# Altium footprint library PASSIVE_SMD.PCBLIB: 249 footprints (part 1 of 16)
Each footprint in its own frame and in the unit in brackets; x right, y up, seen from the top. Pads: shape width x height; smd on the part's side, far side on the other; paste and mask are expansions set on the pad; w line width, h text height; cw(c..) or ccw(c..) is an arc to the next point about the centre after c.
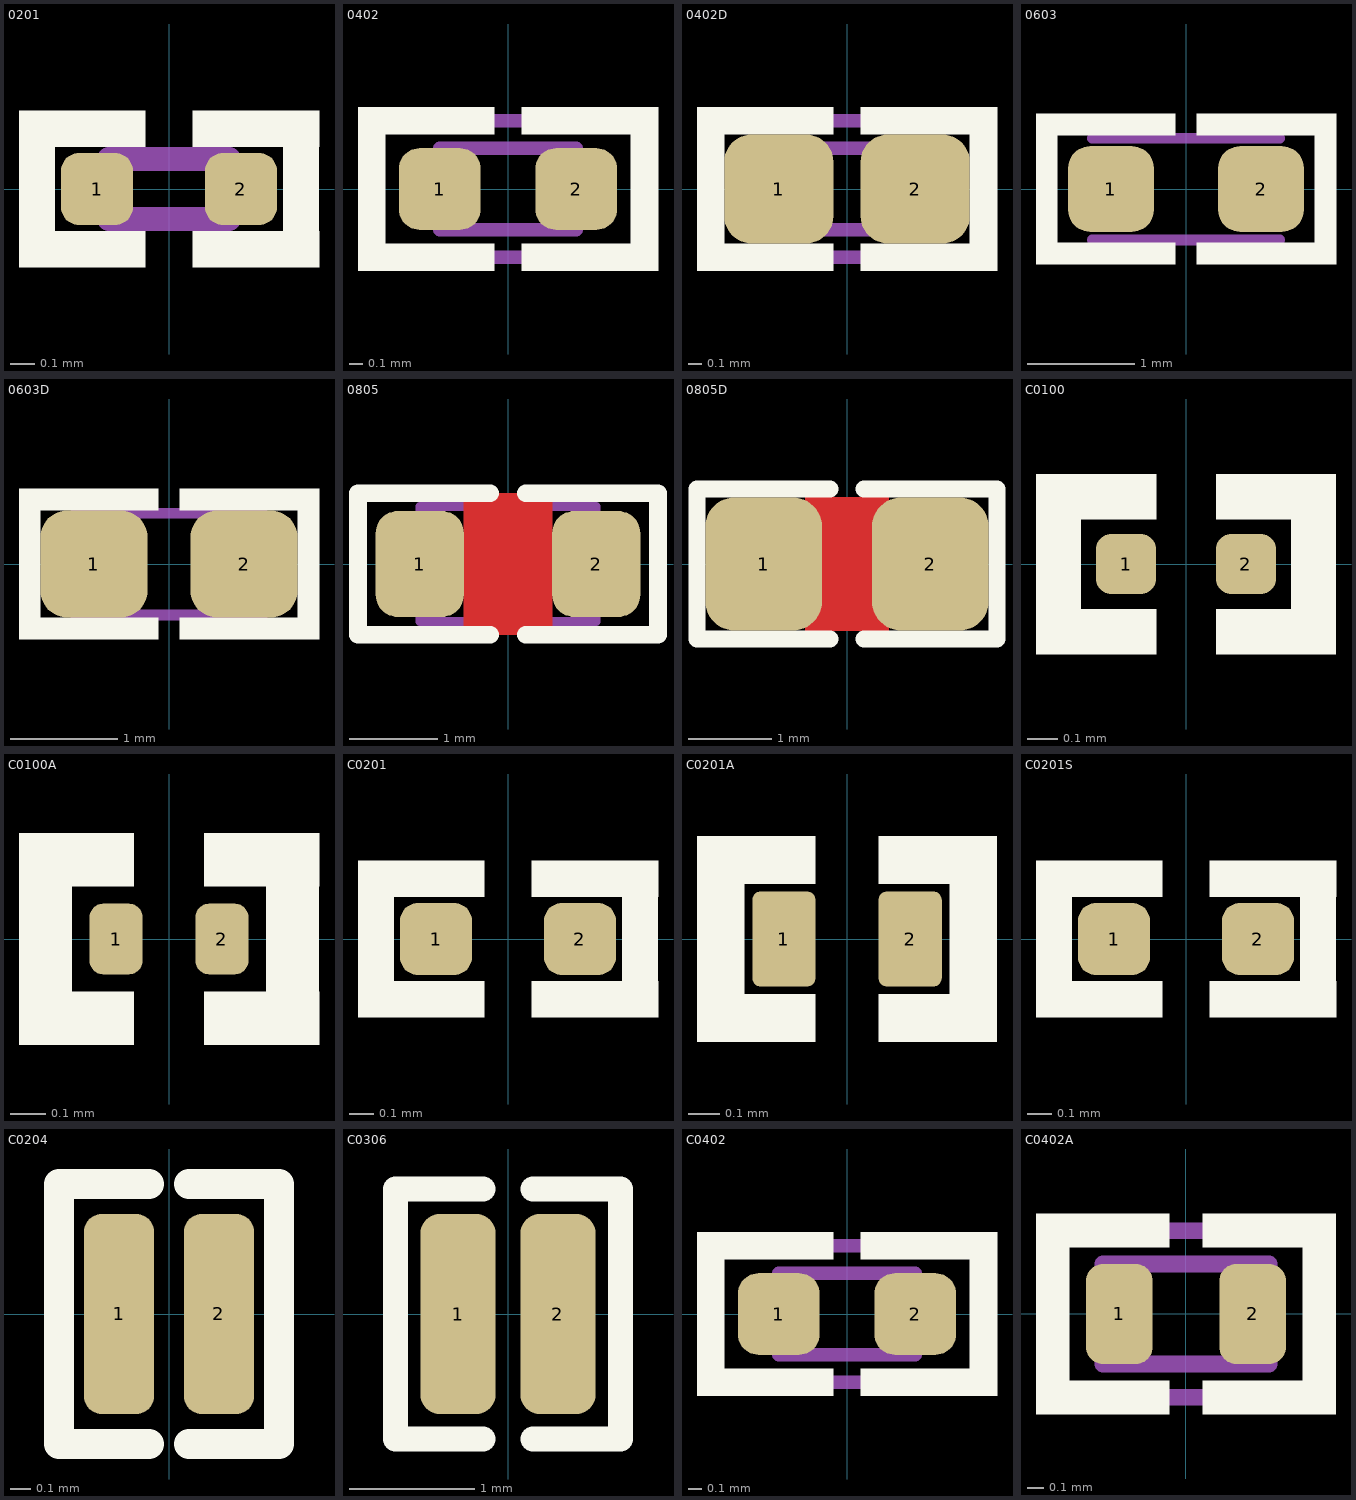
[diagram p0: the footprints below, top view; thin cyan lines are the x and y axes]

## 0201 [mm] "CHIP Capacitor, 0.5x0.25mm, 0201"
pads (2):
  rrect50% 0.3x0.3 smd mask+0.05: 1(-0.3,0) 2(0.3,0)
Top Overlay:
  region: -0.625,0.175 -0.1,0.175 -0.1,0.325 -0.625,0.325
  region: 0.625,0.175 0.1,0.175 0.1,0.325 0.625,0.325
  region: 0.625,-0.175 0.1,-0.175 0.1,-0.325 0.625,-0.325
  region: -0.625,-0.175 -0.1,-0.175 -0.1,-0.325 -0.625,-0.325
  lines w0.15: -0.55,-0.25 -0.55,0.25 ; 0.55,-0.25 0.55,0.25
Mechanical 13:
  lines w0.1: -0.25,-0.125 0.25,-0.125 0.25,0.125 -0.25,0.125 -0.25,-0.125
3D body: height 0.2, standoff 0, extent 0.15,-0.125 0.25,0.125
3D body: height 0.2, standoff 0, extent -0.25,-0.125 -0.15,0.125
3D body: height 0.2, standoff 0, extent -0.15,-0.125 0.15,0.125

## 0402 [mm] "0402, 1005, 100X50, 1.00x0.5mm ( 1.1x0.6mm)"
height 0.4
pads (2):
  rrect50% 0.6x0.6 smd paste-1 mask+0.05: 1(-0.5,0) 2(0.5,0)
Top Overlay:
  region: -0.1,-0.4 -0.1,-0.6 -1.1,-0.6 -1.1,-0.4
  region: -0.1,0.4 -0.1,0.6 -1.1,0.6 -1.1,0.4
  region: -1.1,0.6 -0.9,0.6 -0.9,-0.6 -1.1,-0.6
  region: 1.1,0.6 0.9,0.6 0.9,-0.6 1.1,-0.6
  region: 0.1,0.4 0.1,0.6 1.1,0.6 1.1,0.4
  region: 0.1,-0.4 0.1,-0.6 1.1,-0.6 1.1,-0.4
Top Paste:
  region: -0.65,0.25 -0.4,0.25 -0.25,0 -0.4,-0.25 -0.65,-0.25 -0.67,-0.25 -0.707,-0.235 -0.735,-0.207 -0.75,-0.17 -0.75,-0.15 -0.75,0.151 -0.75,0.171 -0.735,0.207 -0.706,0.235 -0.67,0.25
  region: 0.65,0.25 0.4,0.25 0.25,0 0.4,-0.25 0.65,-0.25 0.67,-0.25 0.707,-0.235 0.735,-0.207 0.75,-0.17 0.75,-0.15 0.75,0.151 0.75,0.171 0.735,0.207 0.706,0.235 0.67,0.25
Mechanical 13:
  lines w0.1: -0.5,-0.3 0.5,-0.3 0.5,0.3 -0.5,0.3 -0.5,-0.3
Mechanical 15:
  lines w0.1: -1,-0.5 -1,0.5 1,0.5 1,-0.5 -1,-0.5
3D body: height 0.4, standoff 0, extent -0.5,-0.3 0.5,0.3

## 0402D [mm] "0402, 1005, 100X50, 1.00x0.5mm ( 1.1x0.6mm), SMD (SolderMask Defined)"
height 0.4
pads (2):
  rrect50% 0.8x0.8 smd paste-2 mask-0.1: 1(-0.5,0) 2(0.5,0)
Top Overlay:
  region: -0.1,-0.4 -0.1,-0.6 -1.1,-0.6 -1.1,-0.4
  region: -0.1,0.4 -0.1,0.6 -1.1,0.6 -1.1,0.4
  region: -1.1,0.6 -0.9,0.6 -0.9,-0.6 -1.1,-0.6
  region: 1.1,0.6 0.9,0.6 0.9,-0.6 1.1,-0.6
  region: 0.1,0.4 0.1,0.6 1.1,0.6 1.1,0.4
  region: 0.1,-0.4 0.1,-0.6 1.1,-0.6 1.1,-0.4
Top Paste:
  region: 0.65,0.25 0.4,0.25 0.25,0 0.4,-0.25 0.65,-0.25 0.67,-0.25 0.707,-0.235 0.735,-0.207 0.75,-0.17 0.75,-0.15 0.75,0.151 0.75,0.171 0.735,0.207 0.706,0.235 0.67,0.25
  region: -0.65,0.25 -0.4,0.25 -0.25,0 -0.4,-0.25 -0.65,-0.25 -0.67,-0.25 -0.707,-0.235 -0.735,-0.207 -0.75,-0.17 -0.75,-0.15 -0.75,0.151 -0.75,0.171 -0.735,0.207 -0.706,0.235 -0.67,0.25
Mechanical 13:
  lines w0.1: -0.5,-0.3 0.5,-0.3 0.5,0.3 -0.5,0.3 -0.5,-0.3
Mechanical 15:
  lines w0.1: -1,-0.5 1,-0.5 1,0.5 -1,0.5 -1,-0.5
3D body: height 0.4, standoff 0, extent -0.5,-0.3 0.5,0.3

## 0603 [mm] "1608, 160X80, 1.6x0.8mm (1.75x0.95mm)"
height 0.6
pads (2):
  rrect50% 0.8x0.8 smd paste-5 mask+0.075: 1(-0.7,0) 2(0.7,0)
Top Overlay:
  region: 0.1,-0.5 0.1,-0.7 1.4,-0.7 1.4,-0.5
  region: 0.1,0.5 0.1,0.7 1.4,0.7 1.4,0.5
  region: 1.4,0.7 1.2,0.7 1.2,-0.7 1.4,-0.7
  region: -1.4,0.7 -1.2,0.7 -1.2,-0.7 -1.4,-0.7
  region: -0.1,0.5 -0.1,0.7 -1.4,0.7 -1.4,0.5
  region: -0.1,-0.5 -0.1,-0.7 -1.4,-0.7 -1.4,-0.5
Top Paste:
  region: -0.7,0.35 -0.63,0.35 -0.502,0.297 -0.403,0.198 -0.35,0.07 -0.35,0 -0.35,-0.07 -0.403,-0.198 -0.502,-0.297 -0.63,-0.35 -0.7,-0.35 -0.9,-0.35 -0.93,-0.35 -0.985,-0.327 -1.027,-0.285 -1.05,-0.23 -1.05,-0.2 -1.05,0.2 -1.05,0.23 -1.027,0.285 -0.985,0.327 -0.93,0.35 -0.9,0.35
  region: 0.7,0.35 0.63,0.35 0.502,0.297 0.403,0.198 0.35,0.07 0.35,0 0.35,-0.07 0.403,-0.198 0.502,-0.297 0.63,-0.35 0.7,-0.35 0.9,-0.35 0.93,-0.35 0.985,-0.327 1.027,-0.285 1.05,-0.23 1.05,-0.2 1.05,0.2 1.05,0.23 1.027,0.285 0.985,0.327 0.93,0.35 0.9,0.35
Mechanical 13:
  lines w0.1: -0.875,-0.475 0.875,-0.475 ; -0.875,0.475 0.875,0.475
3D body: height 0.6, standoff 0, extent -0.875,-0.475 0.875,0.475

## 0603D [mm] "1608, 160X80, 1.6x0.8mm (1.75x0.95mm), SMD (SolderMask Defined)"
height 0.6
pads (2):
  rrect50% 1x1 smd paste-5 mask-0.1: 1(-0.7,0) 2(0.7,0)
Top Overlay:
  region: -0.1,-0.5 -0.1,-0.7 -1.4,-0.7 -1.4,-0.5
  region: -0.1,0.5 -0.1,0.7 -1.4,0.7 -1.4,0.5
  region: -1.4,0.7 -1.2,0.7 -1.2,-0.7 -1.4,-0.7
  region: 1.4,0.7 1.2,0.7 1.2,-0.7 1.4,-0.7
  region: 0.1,0.5 0.1,0.7 1.4,0.7 1.4,0.5
  region: 0.1,-0.5 0.1,-0.7 1.4,-0.7 1.4,-0.5
Top Paste:
  region: 0.7,0.35 0.63,0.35 0.502,0.297 0.403,0.198 0.35,0.07 0.35,0 0.35,-0.07 0.403,-0.198 0.502,-0.297 0.63,-0.35 0.7,-0.35 0.9,-0.35 0.93,-0.35 0.985,-0.327 1.027,-0.285 1.05,-0.23 1.05,-0.2 1.05,0.2 1.05,0.23 1.027,0.285 0.985,0.327 0.93,0.35 0.9,0.35
  region: -0.7,0.35 -0.63,0.35 -0.502,0.297 -0.403,0.198 -0.35,0.07 -0.35,0 -0.35,-0.07 -0.403,-0.198 -0.502,-0.297 -0.63,-0.35 -0.7,-0.35 -0.9,-0.35 -0.93,-0.35 -0.985,-0.327 -1.027,-0.285 -1.05,-0.23 -1.05,-0.2 -1.05,0.2 -1.05,0.23 -1.027,0.285 -0.985,0.327 -0.93,0.35 -0.9,0.35
Mechanical 13:
  lines w0.1: -0.875,-0.475 0.875,-0.475 ; -0.875,0.475 0.875,0.475
3D body: height 0.6, standoff 0, extent -0.875,-0.475 0.875,0.475

## 0805 [mm] ",0805, 2012, 200X130"
pads (2):
  rrect50% 1x1.2 smd paste-5 mask+0.075: 1(-1,0) 2(1,0)
Top Layer:
  pour cut-out: -0.5,0.8 0.5,0.8 0.5,-0.8 -0.5,-0.8
Top Overlay:
  lines w0.2: -0.2,-0.8 -1.7,-0.8 -1.7,0.8 -0.2,0.8 ; 0.2,-0.8 1.7,-0.8 1.7,0.8 0.2,0.8
Top Paste:
  region: 0.9,0.5 0.82,0.5 0.673,0.439 0.561,0.327 0.5,0.18 0.5,0.1 0.5,-0.1 0.5,-0.18 0.561,-0.327 0.673,-0.439 0.82,-0.5 0.9,-0.5 1.15,-0.5 1.18,-0.5 1.235,-0.477 1.277,-0.435 1.3,-0.38 1.3,-0.35 1.3,0.35 1.3,0.38 1.277,0.435 1.235,0.477 1.18,0.5 1.15,0.5
  region: -0.9,0.5 -0.82,0.5 -0.673,0.439 -0.561,0.327 -0.5,0.18 -0.5,0.1 -0.5,-0.1 -0.5,-0.18 -0.561,-0.327 -0.673,-0.439 -0.82,-0.5 -0.9,-0.5 -1.15,-0.5 -1.18,-0.5 -1.235,-0.477 -1.277,-0.435 -1.3,-0.38 -1.3,-0.35 -1.3,0.35 -1.3,0.38 -1.277,0.435 -1.235,0.477 -1.18,0.5 -1.15,0.5
Mechanical 13:
  lines w0.1: -1,-0.65 1,-0.65 1,0.65 -1,0.65 -1,-0.65
3D body: height 0.8, standoff 0, extent -1,-0.65 1,0.65

## 0805D [mm] "0805, 2012, 200X130, SMD (SolderMask Defined)"
pads (2):
  rrect50% 1.4x1.6 smd paste-5 mask-0.2: 1(-1,0) 2(1,0)
Top Layer:
  pour cut-out: -0.5,0.8 0.5,0.8 0.5,-0.8 -0.5,-0.8
Top Overlay:
  lines w0.2: -0.2,-0.9 -1.8,-0.9 -1.8,0.9 -0.2,0.9 ; 0.2,-0.9 1.8,-0.9 1.8,0.9 0.2,0.9
Top Paste:
  region: 0.9,0.5 0.82,0.5 0.673,0.439 0.561,0.327 0.5,0.18 0.5,0.1 0.5,-0.1 0.5,-0.18 0.561,-0.327 0.673,-0.439 0.82,-0.5 0.9,-0.5 1.15,-0.5 1.18,-0.5 1.235,-0.477 1.277,-0.435 1.3,-0.38 1.3,-0.35 1.3,0.35 1.3,0.38 1.277,0.435 1.235,0.477 1.18,0.5 1.15,0.5
  region: -0.9,0.5 -0.82,0.5 -0.673,0.439 -0.561,0.327 -0.5,0.18 -0.5,0.1 -0.5,-0.1 -0.5,-0.18 -0.561,-0.327 -0.673,-0.439 -0.82,-0.5 -0.9,-0.5 -1.15,-0.5 -1.18,-0.5 -1.235,-0.477 -1.277,-0.435 -1.3,-0.38 -1.3,-0.35 -1.3,0.35 -1.3,0.38 -1.277,0.435 -1.235,0.477 -1.18,0.5 -1.15,0.5
Mechanical 13:
  lines w0.1: -1,-0.65 1,-0.65 1,0.65 -1,0.65 -1,-0.65
3D body: height 0.8, standoff 0, extent -1,-0.65 1,0.65

## C0100 [mm] "CHIP Capacitor, 0.4x0.2mm, 0100, 01005"
height 0.13
pads (2):
  rrect50% 0.2x0.2 smd mask+0.05: 1(-0.2,0) 2(0.2,0)
Top Overlay:
  region: -0.5,0.15 -0.1,0.15 -0.1,0.3 -0.5,0.3
  region: -0.5,-0.15 -0.1,-0.15 -0.1,-0.3 -0.5,-0.3
  region: 0.5,-0.15 0.1,-0.15 0.1,-0.3 0.5,-0.3
  region: 0.5,0.15 0.1,0.15 0.1,0.3 0.5,0.3
  lines w0.15: -0.425,-0.225 -0.425,0.225 ; 0.425,-0.225 0.425,0.225
3D body: height 0.2, standoff 0, extent -0.2,-0.1 -0.1,0.1
3D body: height 0.2, standoff 0, extent 0.1,-0.1 0.2,0.1
3D body: height 0.2, standoff 0, extent -0.1,-0.1 0.1,0.1

## C0100A [mm] "CHIP Capacitor, 0.4x0.2mm, for PCBA, 01005"
height 0.13
pads (2):
  rrect50% 0.15x0.2 smd mask+0.05: 1(-0.15,0) 2(0.15,0)
Top Overlay:
  region: 0.425,-0.15 0.1,-0.15 0.1,-0.3 0.425,-0.3
  region: 0.425,0.15 0.1,0.15 0.1,0.3 0.425,0.3
  region: -0.425,0.15 -0.1,0.15 -0.1,0.3 -0.425,0.3
  region: -0.425,-0.15 -0.1,-0.15 -0.1,-0.3 -0.425,-0.3
  lines w0.15: -0.35,-0.225 -0.35,0.225 ; 0.35,-0.225 0.35,0.225
3D body: height 0.2, standoff 0, extent -0.2,-0.1 -0.1,0.1
3D body: height 0.2, standoff 0, extent 0.1,-0.1 0.2,0.1
3D body: height 0.2, standoff 0, extent -0.1,-0.1 0.1,0.1

## C0201 [mm] "CHIP Capacitor, 0.5x0.25mm, 0201"
pads (2):
  rrect50% 0.3x0.3 smd mask+0.05: 1(-0.3,0) 2(0.3,0)
Top Overlay:
  region: -0.625,-0.175 -0.1,-0.175 -0.1,-0.325 -0.625,-0.325
  region: 0.625,-0.175 0.1,-0.175 0.1,-0.325 0.625,-0.325
  region: 0.625,0.175 0.1,0.175 0.1,0.325 0.625,0.325
  region: -0.625,0.175 -0.1,0.175 -0.1,0.325 -0.625,0.325
  lines w0.15: -0.55,-0.25 -0.55,0.25 ; 0.55,-0.25 0.55,0.25
3D body: height 0.2, standoff 0, extent 0.15,-0.15 0.3,0.15
3D body: height 0.2, standoff 0, extent -0.15,-0.15 0.15,0.15
3D body: height 0.2, standoff 0, extent -0.3,-0.15 -0.15,0.15

## C0201A [mm] "CHIP Capacitor, 0.5x0.25mm, for PCBA"
pads (2):
  rrect25% 0.2x0.3 smd mask+0.05: 1(-0.2,0) 2(0.2,0)
Top Overlay:
  region: -0.475,0.175 -0.1,0.175 -0.1,0.325 -0.475,0.325
  region: -0.475,-0.175 -0.1,-0.175 -0.1,-0.325 -0.475,-0.325
  region: 0.475,-0.175 0.1,-0.175 0.1,-0.325 0.475,-0.325
  region: 0.475,0.175 0.1,0.175 0.1,0.325 0.475,0.325
  lines w0.15: -0.4,-0.25 -0.4,0.25 ; 0.4,-0.25 0.4,0.25
3D body: height 0.2, standoff 0, extent -0.3,-0.15 -0.15,0.15
3D body: height 0.2, standoff 0, extent -0.15,-0.15 0.15,0.15
3D body: height 0.2, standoff 0, extent 0.15,-0.15 0.3,0.15

## C0201S [mm] "CHIP Capacitor, 0.5x0.25mm, 0201, soldered"
pads (2):
  rrect50% 0.3x0.3 smd mask+0.05: 1(-0.3,0) 2(0.3,0)
Top Overlay:
  region: -0.625,-0.175 -0.1,-0.175 -0.1,-0.325 -0.625,-0.325
  region: 0.625,-0.175 0.1,-0.175 0.1,-0.325 0.625,-0.325
  region: 0.625,0.175 0.1,0.175 0.1,0.325 0.625,0.325
  region: -0.625,0.175 -0.1,0.175 -0.1,0.325 -0.625,0.325
  lines w0.15: -0.55,-0.25 -0.55,0.25 ; 0.55,-0.25 0.55,0.25
3D body "c0201_Cap.step": height 0.31, standoff 0, extent -0.44,-0.15 0.44,0.15

## C0204 [mm] "CHIP Capacitor, 0.5X1.0mm"
height 0.23
pads (2):
  rrect50% 0.35x1 smd mask+0.05: 1(-0.25,0) 2(0.25,0)
Top Overlay:
  lines w0.15: -0.1,-0.65 -0.55,-0.65 -0.55,0.65 -0.1,0.65 ; 0.1,-0.65 0.55,-0.65 0.55,0.65 0.1,0.65
3D body "105(0204)-0300T.SLDPRT": height 0.3, standoff 0, extent -0.26,-0.5 0.26,0.5

## C0306 [mm] "CHIP Capacitor, 0.8X1.6mm"
height 0.32
pads (2):
  rrect50% 0.6x1.6 smd mask+0.075: 1(-0.4,0) 2(0.4,0)
Top Overlay:
  lines w0.2: -0.2,-1 -0.9,-1 -0.9,1 -0.2,1 ; 0.2,-1 0.9,-1 0.9,1 0.2,1
3D body "107(0306)-0500T.SLDPRT": height 0.5, standoff 0, extent -0.4,-0.8 0.4,0.8

## C0402 [mm] "CHIP Capacitor, 1.0X0.5mm, 0402"
height 0.4
pads (2):
  rrect50% 0.6x0.6 smd paste-1 mask+0.05: 1(-0.5,0) 2(0.5,0)
Top Overlay:
  region: -0.1,-0.4 -0.1,-0.6 -1.1,-0.6 -1.1,-0.4
  region: -0.1,0.4 -0.1,0.6 -1.1,0.6 -1.1,0.4
  region: -1.1,0.6 -0.9,0.6 -0.9,-0.6 -1.1,-0.6
  region: 1.1,0.6 0.9,0.6 0.9,-0.6 1.1,-0.6
  region: 0.1,0.4 0.1,0.6 1.1,0.6 1.1,0.4
  region: 0.1,-0.4 0.1,-0.6 1.1,-0.6 1.1,-0.4
Top Paste:
  region: 0.65,0.25 0.4,0.25 0.25,0 0.4,-0.25 0.65,-0.25 0.67,-0.25 0.707,-0.235 0.735,-0.207 0.75,-0.17 0.75,-0.15 0.75,0.151 0.75,0.171 0.735,0.207 0.706,0.235 0.67,0.25
  region: -0.65,0.25 -0.4,0.25 -0.25,0 -0.4,-0.25 -0.65,-0.25 -0.67,-0.25 -0.707,-0.235 -0.735,-0.207 -0.75,-0.17 -0.75,-0.15 -0.75,0.151 -0.75,0.171 -0.735,0.207 -0.706,0.235 -0.67,0.25
Mechanical 13:
  lines w0.1: -0.5,-0.3 0.5,-0.3 0.5,0.3 -0.5,0.3 -0.5,-0.3
Mechanical 15:
  lines w0.1: -1,-0.5 -1,0.5 1,0.5 1,-0.5 -1,-0.5
3D body "User Library-0402C.step": height 0.36, standoff 0, extent -0.5,-0.265 0.5,0.265

## C0402A [mm] "CHIP Capacitor, 1.0X0.5mm, 0402, for PCBA"
height 0.4
pads (2):
  rrect50% 0.4x0.6 smd mask+0.05: 1(-0.4,0) 2(0.4,0)
Top Overlay:
  region: 0.1,-0.4 0.1,-0.6 0.9,-0.6 0.9,-0.4
  region: 0.1,0.4 0.1,0.6 0.9,0.6 0.9,0.4
  region: 0.9,0.6 0.7,0.6 0.7,-0.6 0.9,-0.6
  region: -0.9,0.6 -0.7,0.6 -0.7,-0.6 -0.9,-0.6
  region: -0.1,0.4 -0.1,0.6 -0.9,0.6 -0.9,0.4
  region: -0.1,-0.4 -0.1,-0.6 -0.9,-0.6 -0.9,-0.4
Mechanical 13:
  lines w0.1: -0.5,-0.3 -0.5,0.3 0.5,0.3 0.5,-0.3 -0.5,-0.3
Mechanical 15:
  lines w0.1: -0.8,-0.5 0.8,-0.5 0.8,0.5 -0.8,0.5 -0.8,-0.5
3D body "User Library-0402C.step": height 0.36, standoff 0, extent -0.5,-0.265 0.5,0.265